# Altium footprint library TopBoardConnector.PcbLib: 1 footprints
Each footprint in its own frame and in the unit in brackets; x right, y up, seen from the top. Pads: shape width x height; smd on the part's side, far side on the other; paste and mask are expansions set on the pad; w line width, h text height; cw(c..) or ccw(c..) is an arc to the next point about the centre after c.
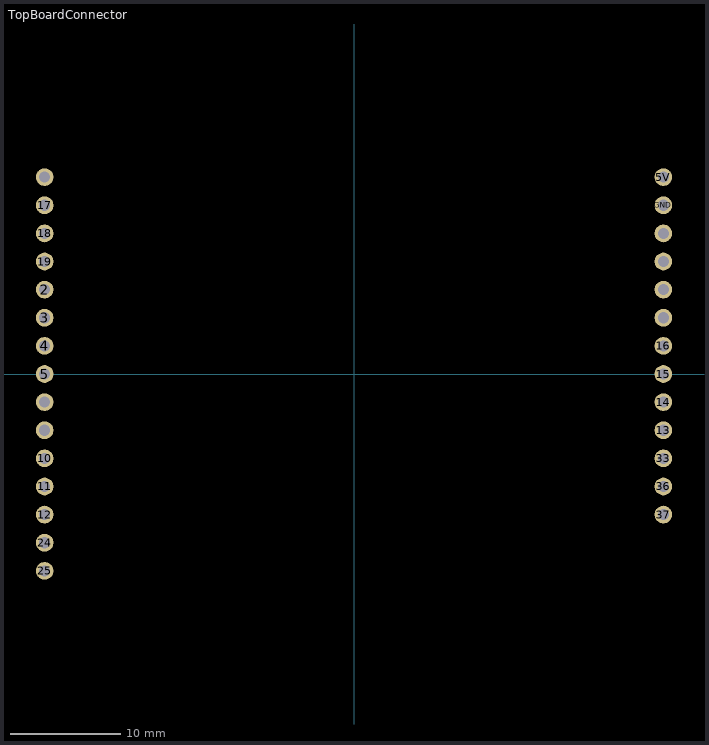
[diagram p0: the footprint, top view; thin cyan lines are the x and y axes]

## TopBoardConnector [mm]
pads (28):
  round 1.6 hole 1: 0-ADC_SS(27.94,12.7) 1-ADC_MISO(27.94,5.08) 2(-27.94,7.62) 3(-27.94,5.08) 4(-27.94,2.54) 5(-27.94,0) 5V(27.94,17.78) 7-UART-RX(-27.94,-2.54) 8-UART-TX(-27.94,-5.08) 10(-27.94,-7.62) 11(-27.94,-10.16) 12(-27.94,-12.7) 13(27.94,-5.08) 14(27.94,-2.54) 15(27.94,0) 16(27.94,2.54) 17(-27.94,15.24) 18(-27.94,12.7) 19(-27.94,10.16) 23-INJSW(-27.94,17.78) 24(-27.94,-15.24) 25(-27.94,-17.78) 26-ADC_MOSI(27.94,7.62) 27-ADC_CLK(27.94,10.16) 33(27.94,-7.62) 36(27.94,-10.16) 37(27.94,-12.7) GND(27.94,15.24)